# EAGLE library part DG419BDQ-T1-E3 (library Vishay_By_element14_Batch_1)
Monolithic Quad SPST CMOS Analog Switches
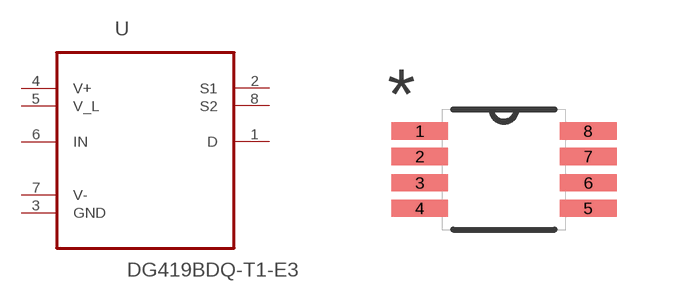
[diagram p51: symbol with the pads of SOP65P490X110-8N; footprint SOP65P490X110-8N]

Designator prefix U

## DG419BDQ-T1-E3 (MPN: DG419BDQ-T1-E3; OC_FARNELL: 1703236; OC_NEWARK: 49K9618; PACKAGE: MSOP-8; SUPPLIER: VISHAY SILICONIX)  [SOP65P490X110-8N]
1  D  out
2  S1  out
3  GND  pas
4  V+  pwr
5  V_L  in
6  IN  in
7  V-  in
8  S2  out

## Footprint SOP65P490X110-8N (pad centres in mm)
smd 1.422 x 0.432: 1 -2.108,0.965; 2 -2.108,0.33; 3 -2.108,-0.33; 4 -2.108,-0.965; 5 2.108,-0.965; 6 2.108,-0.33; 7 2.108,0.33; 8 2.108,0.965